# Altium footprint library RFComponents.PcbLib: 19 footprints (part 1 of 2)
Each footprint in its own frame and in the unit in brackets; x right, y up, seen from the top. Pads: shape width x height; smd on the part's side, far side on the other; paste and mask are expansions set on the pad; w line width, h text height; cw(c..) or ccw(c..) is an arc to the next point about the centre after c.
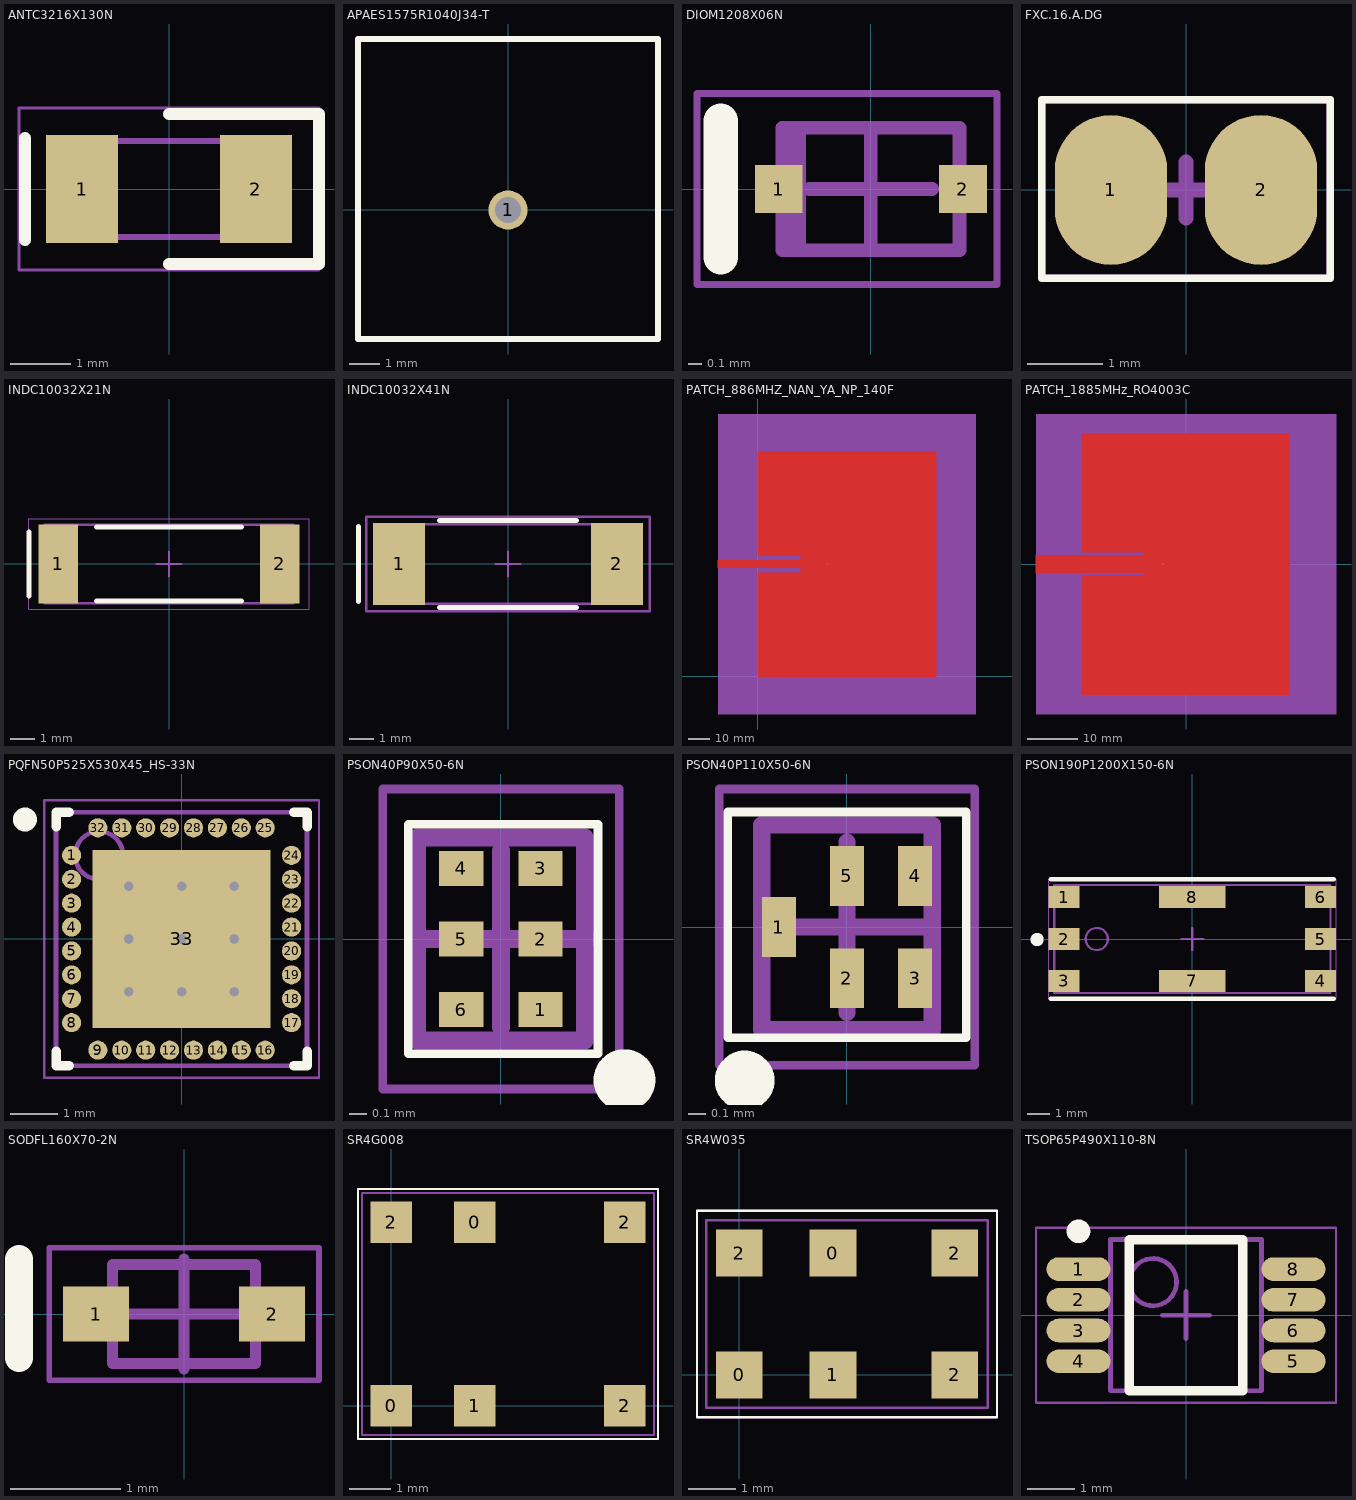
[diagram p0: the footprints below, top view; thin cyan lines are the x and y axes]

## ANTC3216X130N [mm]
pads (2):
  rect 1.2x1.8 smd: 1(-1.45,0) 2(1.45,0)
Top Overlay:
  lines w0.2: -2.4,-0.85 -2.4,0.85 ; 0,-1.25 2.5,-1.25 2.5,1.25 0,1.25
Mechanical 15:
  lines w0.1: -1.6,0.2 -1,0.8 ; -1.6,-0.8 1.6,-0.8 1.6,0.8 -1.6,0.8 -1.6,-0.8
Mechanical 20:
  lines w0.05: -2.5,-1.35 2.5,-1.35 2.5,1.35 -2.5,1.35 -2.5,-1.35
3D body "2450AT18E0100E.stp": height 1.3, standoff 0, extent -1.6,-0.8 1.6,0.8

## APAES1575R1040J34-T [mm] "GPS / WLAN Patch Antenna"
height 4
pads (1):
  round 1.3 hole 0.85: 1(0,0)
Top Overlay:
  lines w0.2: -5,-4.3 -5,5.7 5,5.7 5,-4.3 -5,-4.3
Mechanical 29:
  lines w0.2: -5,-4.3 5,-4.3 5,5.7 -5,5.7 -5,-4.3
  text ".Designator" at -2,0 h1.52
3D body "APAES1575R1040J34-T.STEP": height 4.8, standoff -1.4, extent -5,-4.313 5,5.687

## DIOM1208X06N [mm] "Molded Diode, 2-Leads, Body 1.20x0.80mm, IPC Medium Density"
height 0.6
pads (2):
  rect 0.35x0.35 smd: 1(-0.675,0) 2(0.675,0)
Top Overlay:
  lines w0.254: -1.1,-0.5 -1.1,0.5
Mechanical 13:
  rectangle: -0.65,-0.45 -0.475,0.45
  lines w0.1: -0.65,-0.45 0.65,-0.45 0.65,0.45 -0.65,0.45 -0.65,-0.45
Mechanical 15:
  lines w0.05: -1.275,-0.7 0.925,-0.7 0.925,0.7 -1.275,0.7 -1.275,-0.7
  lines w0.1: -0.45,0 0.45,0 ; 0,-0.45 0,0.45
3D body "DIOM1208X06N.step": height 0.6, standoff 0, extent -0.87,-0.45 0.87,0.45

## FXC.16.A.DG [mm]
pads (2):
  oval 1.5x2 smd mask+0.05: 1(-1,0) 2(1,0)
Top Overlay:
  lines w0.1: -1.925,-1.175 1.925,-1.175 1.925,1.2 -1.925,1.2 -1.925,-1.175
Mechanical 15:
  lines w0.1: -1.925,-1.175 -1.925,1.2 1.925,1.2 1.925,-1.175 -1.925,-1.175
  lines w0.2: -0.375,0 0.375,0 ; 0,-0.375 0,0.375
Mechanical 29:
  lines w0.1: -1.925,-1.175 1.925,-1.175 1.925,1.2 -1.925,1.2 -1.925,-1.175
  text ".Designator" at -0.125,-0.125 h1.52
3D body: height 1, standoff 0, extent -1.748,-0.25 -0.251,0.253
3D body: height 1, standoff 0, extent -1.749,-0.491 -0.252,1.003
3D body: height 1, standoff 0, extent -1.75,-1 -0.25,0.5
3D body: height 1, standoff 0, extent 0.251,-0.994 1.749,0.5
3D body: height 1, standoff 0, extent 0.251,-0.491 1.748,1.003
3D body: height 1, standoff 0, extent 0.252,-0.25 1.749,0.253

## INDC10032X21N [mm] "Chip Inductor, 2-Leads, Body 10.00x3.15mm, IPC Medium Density"
height 2.1
pads (2):
  rect 1.6x3.2 smd: 1(-4.5,0) 2(4.5,0)
Top Overlay:
  lines w0.2: -5.7,-1.3 -5.7,1.3 ; -2.95,-1.5 2.95,-1.5 ; -2.95,1.5 2.95,1.5
Mechanical 13:
  lines w0.1: -5.05,-1.6 5.05,-1.6 5.05,1.6 -5.05,1.6 -5.05,-1.6
Mechanical 15:
  lines w0.05: -5.7,-1.85 5.7,-1.85 5.7,1.85 -5.7,1.85 -5.7,-1.85
  lines w0.1: -0.5,0 0.5,0 ; 0,-0.5 0,0.5
Mechanical 29:
  lines w0.05: -5.7,-1.85 -5.7,1.85 5.7,1.85 5.7,-1.85 -5.7,-1.85
  text ".Designator" at -0.45,-0.25 h0.5
3D body "INDC10032X21N.step": height 2.1, standoff 0, extent -5.05,-1.6 5.05,1.6

## INDC10032X41N [mm] "Chip Inductor, 2-Leads, Body 10.00x3.15mm, IPC Medium Density"
height 4.1
pads (2):
  rect 2.1x3.3 smd: 1(-4.375,0) 2(4.375,0)
Top Overlay:
  lines w0.2: -6,-1.5 -6,1.5 ; -2.75,-1.75 2.75,-1.75 ; -2.75,1.75 2.75,1.75
Mechanical 13:
  lines w0.1: -5.05,-1.6 5.05,-1.6 5.05,1.6 -5.05,1.6 -5.05,-1.6
Mechanical 15:
  lines w0.1: -0.5,0 0.5,0 ; 0,-0.5 0,0.5 ; -5.7,-1.9 -5.7,1.9 5.7,1.9 5.7,-1.9 -5.7,-1.9
Mechanical 29:
  lines w0.1: -5.7,-1.9 5.7,-1.9 5.7,1.9 -5.7,1.9 -5.7,-1.9
  text ".Designator" at -1.25,-0.75 h1.52
3D body "INDC10032X41N.step": height 4.1, standoff 0, extent -5.05,-1.6 5.05,1.6

## PATCH_886MHZ_NAN_YA_NP_140F [mil]
pads (1):
  round 1 smd paste-39370.1: 1(1276.97,2066.93)
Top Layer:
  region: -723.62,2000 -723.62,2133.86 787.41,2133.86 787.41,2232.28 0,2232.28 0,4133.86 3277.56,4133.86 3277.56,0 0,0 0,1901.58 787.41,1901.58 787.41,2000
Mechanical 2:
  lines w10: 783.47,2000 -723.62,2000 -723.62,2133.86 787.41,2133.86 787.41,2232.28 0,2232.28 0,4133.86 3277.56,4133.86 3277.56,0 0,0 0,1901.58 787.41,1901.58 787.41,2000
Notes:
  region: -723.62,4822.83 4000.79,4822.83 4000.79,-688.98 -723.62,-688.98

## PATCH_1885MHz_RO4003C [mil]
pads (1):
  round 1 smd paste-39370.1: 1(-181.1,0)
Top Layer:
  region: -1181.1,-68.9 -1181.1,68.9 -324.8,68.9 -326.77,70.87 -326.77,92.52 -818.9,92.52 -818.9,1027.56 818.9,1027.56 818.9,-1027.56 -818.9,-1027.56 -818.9,-92.52 -326.77,-92.52 -326.77,-68.9
Mechanical 2:
  lines w10: -1181.1,-68.9 -1181.1,68.9 -324.8,68.9 -326.77,70.87 -326.77,92.52 -818.9,92.52 -818.9,1027.56 818.9,1027.56 818.9,-1027.56 -818.9,-1027.56 -818.9,-92.52 -326.77,-92.52 -326.77,-68.9 -1181.1,-68.9
Notes:
  region: -1181.1,1181.1 1181.1,1181.1 1181.1,-1181.1 -1181.1,-1181.1

## PQFN50P525X530X45_HS-33N [mm] "PQFN, 32-Leads, Body 5.25x5.30mm, Pitch 0.50mm, Thermal Pad 3.72x3.72mm, IPC Medium Density"
height 0.45
pads (33):
  round 0.4 smd: 1(-2.3,1.75) 2(-2.3,1.25) 3(-2.3,0.75) 4(-2.3,0.25) 5(-2.3,-0.25) 6(-2.3,-0.75) 7(-2.3,-1.25) 8(-2.3,-1.75) 9(-1.75,-2.325) 10(-1.25,-2.325) 11(-0.75,-2.325) 12(-0.25,-2.325) 13(0.25,-2.325) 14(0.75,-2.325) 15(1.25,-2.325) 16(1.75,-2.325) 17(2.3,-1.75) 18(2.3,-1.25) 19(2.3,-0.75) 20(2.3,-0.25) 21(2.3,0.25) 22(2.3,0.75) 23(2.3,1.25) 24(2.3,1.75) 25(1.75,2.325) 26(1.25,2.325) 27(0.75,2.325) 28(0.25,2.325) 29(-0.25,2.325) 30(-0.75,2.325) 31(-1.25,2.325) 32(-1.75,2.325)
  rect 3.72x3.72 smd: 33(0,0)
via -1.1,1.1 diameter 0.5 hole 0.2
via 0,1.1 diameter 0.5 hole 0.2
via 1.1,1.1 diameter 0.5 hole 0.2
via -1.1,0 diameter 0.5 hole 0.2
via 0,0 diameter 0.5 hole 0.2
via 1.1,0 diameter 0.5 hole 0.2
via -1.1,-1.1 diameter 0.5 hole 0.2
via 0,-1.1 diameter 0.5 hole 0.2
via 1.1,-1.1 diameter 0.5 hole 0.2
Top Overlay:
  circle w0.25: c-3.275,2.5 r0.125
  lines w0.2: -2.625,-2.35 -2.625,-2.65 -2.35,-2.65 ; -2.625,2.35 -2.625,2.65 -2.35,2.65 ; 2.35,-2.65 2.625,-2.65 2.625,-2.35 ; 2.35,2.65 2.625,2.65 2.625,2.35
Mechanical 13:
  circle w0.1: c-1.725,1.75 r0.5
  lines w0.1: -2.625,-2.65 -2.625,2.65 2.625,2.65 2.625,-2.65 -2.625,-2.65
Mechanical 15:
  lines w0.05: -2.875,-2.9 -2.875,2.9 2.875,2.9 2.875,-2.9 -2.875,-2.9
  lines w0.1: -0.5,0 0.5,0 ; 0,-0.5 0,0.5
Mechanical 29:
  lines w0.05: -2.875,-2.9 2.875,-2.9 2.875,2.9 -2.875,2.9 -2.875,-2.9
  text ".Designator" at -0.15,-0.1 h0.4
3D body "PQFN50P525X530X45_HS-33N.step": height 0.45, standoff 0, extent -2.625,-2.65 2.625,2.65

## PSON40P90X50-6N [mm] "PSON, 6-Leads, Body 1.10x0.90mm, Pitch 0.40mm, IPC Medium Density"
height 0.5
pads (6):
  rect 0.25x0.2 smd mask+0.05: 1(0.225,-0.4) 2(0.225,0) 3(0.225,0.4) 4(-0.225,0.4) 5(-0.225,0) 6(-0.225,-0.4)
Top Overlay:
  circle w0.25: c0.7,-0.8 r0.05
  lines w0.05: -0.525,-0.65 -0.525,0.65 0.55,0.65 0.55,-0.65 -0.525,-0.65
Mechanical 13:
  lines w0.1: -0.475,-0.575 -0.475,0.575 0.475,0.575 0.475,-0.575 -0.475,-0.575
Mechanical 15:
  lines w0.05: -0.67,-0.85 0.67,-0.85 0.67,0.85 -0.67,0.85 -0.67,-0.85
  lines w0.1: -0.5,0 0.5,0 ; 0,-0.5 0,0.5
Mechanical 29:
  lines w0.05: -0.67,-0.85 0.67,-0.85 0.67,0.85 -0.67,0.85 -0.67,-0.85
  text ".Designator" at -0.25,-0.15 h0.3
3D body "PSON40P90X50-6N.step": height 0.5, standoff 0, extent -0.476,-0.575 0.476,0.575

## PSON40P110X50-6N [mm] "PSON, 6-Leads, Body 0.90x1.10mm, Pitch 0.40mm, IPC Medium Density"
height 0.5
pads (5):
  rect 0.2x0.35 smd mask+0.05: 1(-0.4,0) 2(0,-0.3) 3(0.4,-0.3) 4(0.4,0.3) 5(0,0.3)
Top Overlay:
  circle w0.25: c-0.6,-0.9 r0.05
  lines w0.05: -0.7,-0.65 0.7,-0.65 0.7,0.675 -0.7,0.675 -0.7,-0.65
Mechanical 13:
  lines w0.1: -0.5,-0.6 0.5,-0.6 0.5,0.6 -0.5,0.6 -0.5,-0.6
Mechanical 15:
  lines w0.05: -0.75,-0.81 -0.75,0.81 0.75,0.81 0.75,-0.81 -0.75,-0.81
  lines w0.1: -0.5,0 0.5,0 ; 0,-0.5 0,0.5
Mechanical 29:
  lines w0.05: -0.75,-0.81 -0.75,0.81 0.75,0.81 0.75,-0.81 -0.75,-0.81
  text ".Designator" at -0.275,-0.125 h0.3
3D body "PSON40P110X50-6N.step": height 0.5, standoff 0, extent -0.5,-0.601 0.5,0.601

## PSON190P1200X150-6N [mm] "PSON, 6-Leads, Body 4,40x12,00mm, Pitch 1,90mm, IPC Medium Density"
height 1.5
pads (8):
  rect 1.4x1 smd: 1(-5.8,1.9) 2(-5.8,0) 3(-5.8,-1.9) 4(5.8,-1.9) 5(5.8,0) 6(5.8,1.9)
  rect 3x1 smd: 7(0,-1.9) 8(0,1.9)
Top Overlay:
  circle w0.5: c-7.025,-0.025 r0.05
  lines w0.2: -6.4,-2.7 6.4,-2.7 ; -6.4,2.7 6.4,2.7
Mechanical 13:
  circle w0.1: c-4.325,0 r0.5
  lines w0.1: -6.25,-2.45 -6.25,2.45 6.25,2.45 6.25,-2.45 -6.25,-2.45
Mechanical 15:
  lines w0.05: -6.5,-2.7 -6.5,2.7 6.5,2.7 6.5,-2.7 -6.5,-2.7
  lines w0.1: -0.5,0 0.5,0 ; 0,-0.5 0,0.5
3D body "PSON190P1200X150-6N.step": height 1.5, standoff 0, extent -6.251,-2.45 6.251,2.45

## SODFL160X70-2N [mm] "SODFL, 2-Leads, Body 0.80x1.60mm, IPC Medium Density"
height 0.7
pads (2):
  rect 0.6x0.5 smd: 1(-0.8,0) 2(0.8,0)
Top Overlay:
  lines w0.254: -1.5,-0.4 -1.5,0.5
Mechanical 13:
  lines w0.1: -0.65,-0.45 0.65,-0.45 0.65,0.45 -0.65,0.45 -0.65,-0.45
Mechanical 15:
  lines w0.05: -1.225,-0.6 1.225,-0.6 1.225,0.6 -1.225,0.6 -1.225,-0.6
  lines w0.1: -0.5,0 0.5,0 ; 0,-0.5 0,0.5
Mechanical 29:
  lines w0.05: -1.225,-0.6 1.225,-0.6 1.225,0.6 -1.225,0.6 -1.225,-0.6
  text ".Designator" at -0.58,-0.113 h0.5
3D body "SODFL160X70-2N.step": height 0.7, standoff 0, extent -0.8,-0.45 0.8,0.45

## SR4G008 [mm] "GNSS -a"
pads (6):
  rect 1x1 smd: 0(0,0) 0(2,4.4) 1(2,0) 2(0,4.4) 2(5.6,0) 2(5.6,4.4)
Top Overlay:
  lines w0.05: -0.8,-0.8 -0.8,5.2 6.4,5.2 6.4,-0.8 -0.8,-0.8
Mechanical 13:
  lines w0.05: -0.7,-0.7 -0.7,5.1 6.3,5.1 6.3,-0.7 -0.7,-0.7
Mechanical 15:
  lines w0.05: -0.8,-0.8 6.4,-0.8 6.4,5.2 -0.8,5.2 -0.8,-0.8
Mechanical 29:
  lines w0.05: -0.8,-0.8 -0.8,5.2 6.4,5.2 6.4,-0.8 -0.8,-0.8
  text ".Designator" at 1.9,2 h0.4
3D body "final antenna model.STEP": height 0.52, standoff -0.05, extent -0.706,-0.714 6.294,5.086

## SR4W035 [mm] "Serica Footprint"
height 0.01
pads (6):
  rect 1x1 smd: 0(0,0) 0(2,2.6) 1(2,0) 2(0,2.6) 2(4.6,0) 2(4.6,2.6)
Top Overlay:
  lines w0.05: -0.9,-0.9 5.5,-0.9 5.5,3.5 -0.9,3.5 -0.9,-0.9
Mechanical 2:
  lines w0.05: -0.7,-0.7 5.3,-0.7 5.3,3.3 -0.7,3.3 -0.7,-0.7
Mechanical 15:
  lines w0.05: -0.9,-0.9 -0.9,3.5 5.5,3.5 5.5,-0.9 -0.9,-0.9
Mechanical 29:
  lines w0.05: 5.3,-0.9 -0.9,-0.9 -0.9,3.5 5.5,3.5 5.5,-0.8
  text ".Designator" at 2,1 h0.4
3D body "AN-1-1422-A.step": height 0.4, standoff 0.01, extent -0.7,-0.7 5.3,3.3

## TSOP65P490X110-8N [mm] "TSOP, 8-Leads, Body 3.00x3.00mm, Pitch 0.65mm, IPC Medium Density"
height 1.1
pads (8):
  oval 1.35x0.5 smd: 1(-2.275,0.975) 2(-2.275,0.325) 3(-2.275,-0.325) 4(-2.275,-0.975) 5(2.275,-0.975) 6(2.275,-0.325) 7(2.275,0.325) 8(2.275,0.975)
Top Overlay:
  circle w0.25: c-2.275,1.775 r0.125
  lines w0.2: -1.2,-1.6 -1.2,1.6 1.2,1.6 1.2,-1.6 -1.2,-1.6
Mechanical 13:
  circle w0.1: c-0.7,0.7 r0.5
  lines w0.1: -1.6,-1.6 -1.6,1.6 1.6,1.6 1.6,-1.6 -1.6,-1.6
Mechanical 15:
  lines w0.05: -3.175,-1.85 -3.175,1.85 3.175,1.85 3.175,-1.85 -3.175,-1.85
  lines w0.1: -0.5,0 0.5,0 ; 0,-0.5 0,0.5
3D body "TSOP65P490X110-8N.step": height 1.1, standoff 0, extent -2.45,-1.6 2.45,1.6